# Altium footprint library 2020-09-04_22-11-48.PcbLib: 1 footprints
Each footprint in its own frame and in the unit in brackets; x right, y up, seen from the top. Pads: shape width x height; smd on the part's side, far side on the other; paste and mask are expansions set on the pad; w line width, h text height; cw(c..) or ccw(c..) is an arc to the next point about the centre after c.
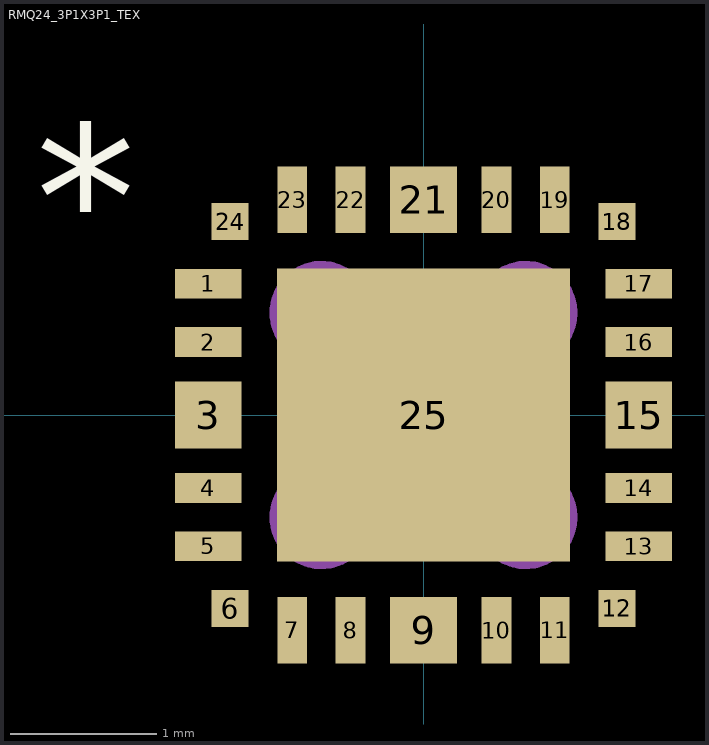
[diagram p0: the footprint, top view; thin cyan lines are the x and y axes]

## RMQ24_3P1X3P1_TEX [mil]
pads (25):
  rect 18x8 smd paste-4 mask+0: 1(-58.07,35.43) 2(-58.07,19.68) 4(-58.07,-19.68) 5(-58.07,-35.43) 13(58.07,-35.43) 14(58.07,-19.68) 16(58.07,19.68) 17(58.07,35.43)
  rect 18x18 smd paste+0 mask+0: 3(-58.07,0) 9(0,-58.07) 15(58.07,0) 21(0,58.07)
  rect 10x10 smd: 6(-52.17,-52.17) 12(52.17,-52.17) 18(52.17,52.17) 24(-52.17,52.17)
  rect 8x18 smd paste-4 mask+0: 7(-35.43,-58.07) 8(-19.68,-58.07) 10(19.68,-58.07) 11(35.43,-58.07) 19(35.43,58.07) 20(19.68,58.07) 22(-19.68,58.07) 23(-35.43,58.07)
  rect 79x79 smd paste-39.5 mask+0: 25(0,0)
Top Overlay:
  text "*" at -104.57,39.21 h50
Top Paste:
  region: 39.5,39.5 -39.5,39.5 -39.5,-39.5 39.5,-39.5
Mechanical 16:
  circle w10: c0,0 r9
  circle w10: c-27.56,27.56 r9
  circle w10: c27.56,27.56 r9
  circle w10: c-27.56,-27.56 r9
  circle w10: c27.56,-27.56 r9
3D body: height 31.5, standoff 0, extent -61.02,-61.02 61.02,61.02